# Altium footprint library WE-WPCC.PcbLib: 65 footprints (part 3 of 5)
Each footprint in its own frame and in the unit in brackets; x right, y up, seen from the top. Pads: shape width x height; smd on the part's side, far side on the other; paste and mask are expansions set on the pad; w line width, h text height; cw(c..) or ccw(c..) is an arc to the next point about the centre after c.
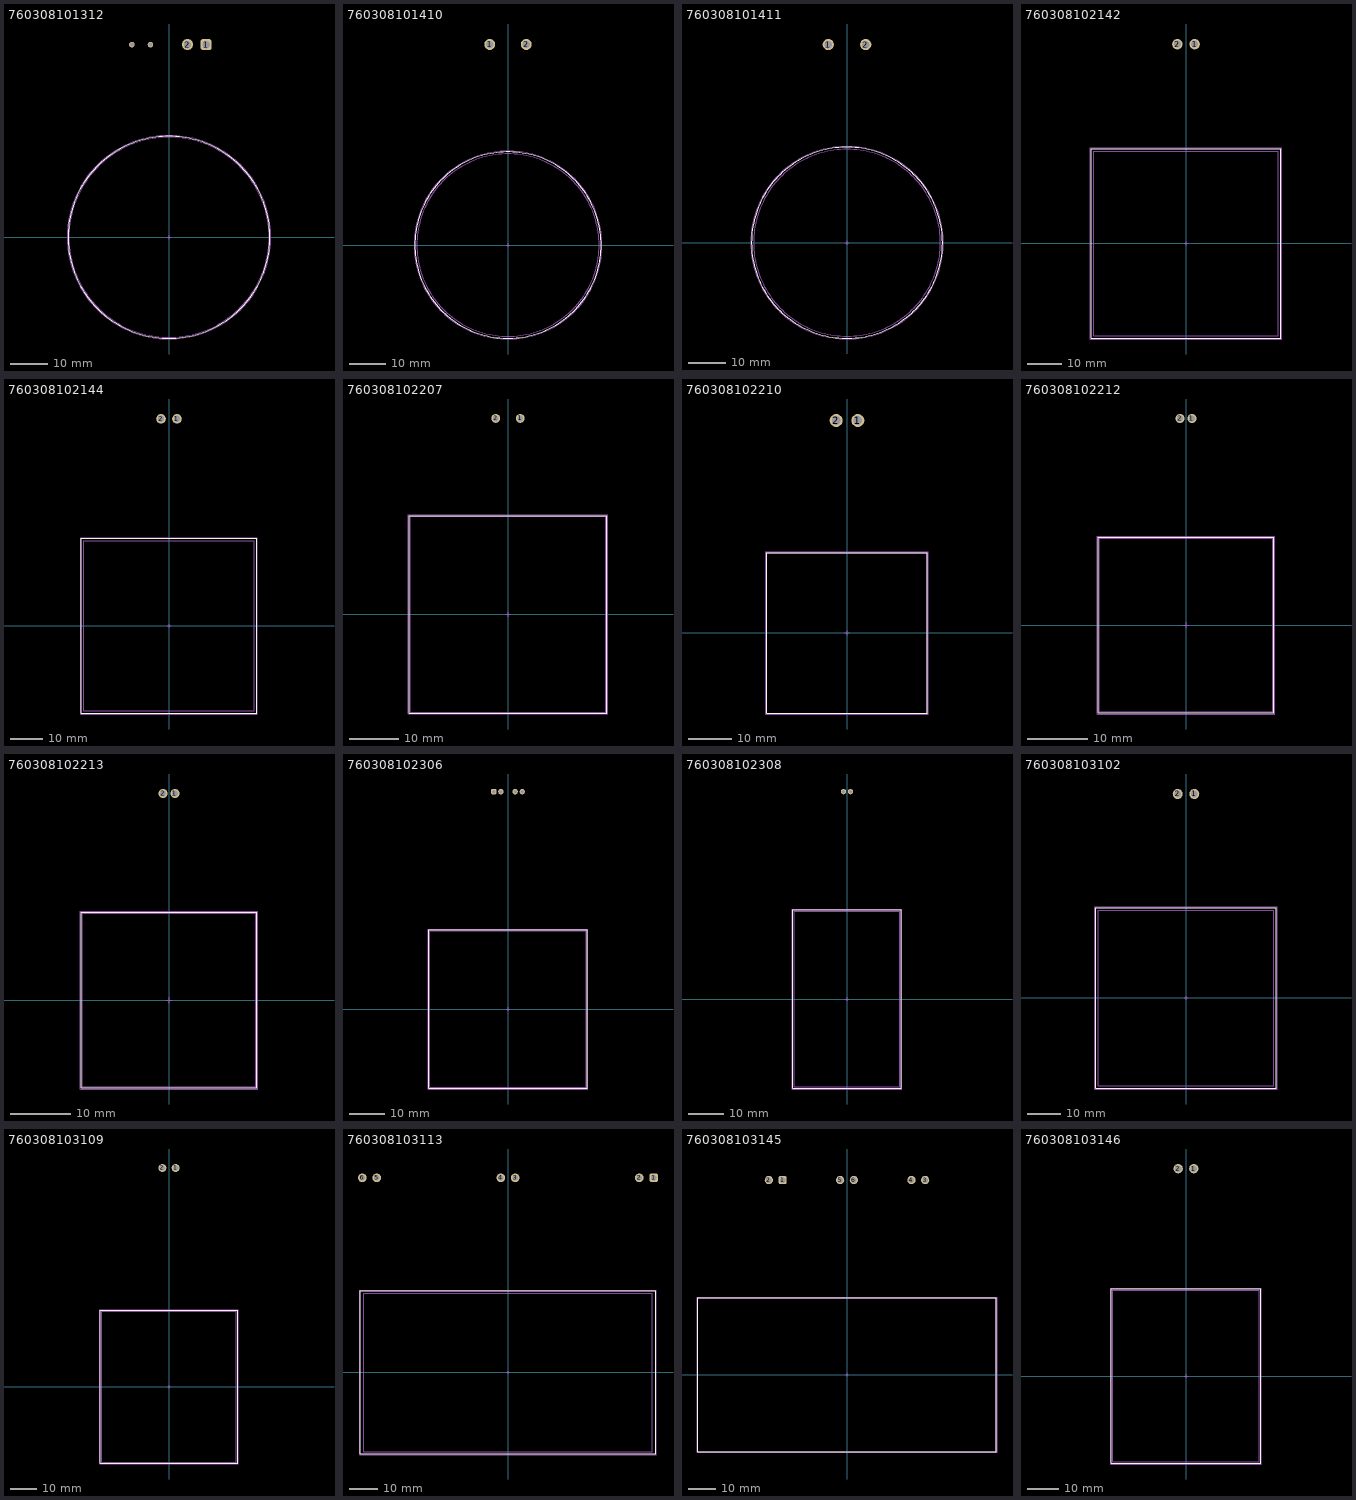
[diagram p2: the footprints below, top view; thin cyan lines are the x and y axes]

## 760308101312 [mm] "Wireless Power Transfer Transmitter Coil, Dia 54mm"
height 4
pads (4):
  rrect50% 3x3 hole 2: 1(10,52)
  round 3 hole 2: 2(5,52)
  round 1.5 hole 1: 3(-5,52) 4(-10,52)
Top Overlay:
  circle w0.2: c0,0 r27.25
Top Component Outline:
  circle w0.1: c0,0 r27
Top 3D Body:
  circle w0.1: c0,0 r27
Top Courtyard:
  circle w0.05: c0,0 r27.45
Top Component Center:
  lines w0.05: -0.5,0 0.5,0 ; 0,-0.5 0,0.5
Top Designator (Mech19):
  text ".Designator" at -7.498,-0.5 h1.5
3D body "760308101312.stp": height 4.05, standoff 0, extent -27.084,-26.997 27,57

## 760308101410 [mm] "Wireless Power Transfer Transmitter Coil, Dia 50mm"
height 3.1
pads (2):
  round 3 hole 2: 1(-5,55) 2(5,55)
Top Overlay:
  circle w0.2: c0,0 r25.55
Top Component Outline:
  circle w0.1: c0,0 r25
Top 3D Body:
  circle w0.1: c0,0 r25
Top Courtyard:
  circle w0.05: c0,0 r25.75
Top Component Center:
  lines w0.05: -0.5,0 0.5,0 ; 0,-0.5 0,0.5
Top Designator (Mech19):
  text ".Designator" at -7.498,-0.5 h1.5
3D body "760308101410.stp": height 3.07, standoff 0.1, extent -24.995,-25 24.995,63.334

## 760308101411 [mm] "Wireless Power Transfer Transmitter Coil, Dia 50mm"
height 2.8
pads (2):
  round 3 hole 2: 1(-5,53) 2(5,53)
Top Overlay:
  circle w0.2: c0,0 r25.55
Top Component Outline:
  circle w0.1: c0,0 r25
Top 3D Body:
  circle w0.1: c0,0 r25
Top Courtyard:
  circle w0.05: c0,0 r25.75
Top Component Center:
  lines w0.05: -0.5,0 0.5,0 ; 0,-0.5 0,0.5
Top Designator (Mech19):
  text ".Designator" at -7.498,-0.5 h1.5
3D body "760308101411.stp": height 2.79, standoff 0.1, extent -24.995,-25 24.995,61.324

## 760308102142 [mm] "Wireless Power Transfer Transmitter Coil, body 55x55mm"
height 6.5
pads (2):
  round 3 hole 2: 1(2.5,57.75) 2(-2.5,57.75)
Top Overlay:
  lines w0.2: -27.501,-27.5 27.499,-27.5 ; -27.5,-27.5 -27.5,27.5 ; -27.5,27.499 27.5,27.499 ; 27.499,-27.502 27.499,27.498
Assembly Notes:
  text "Pitch 5mm min." at -7,54 h1.22
Top Component Outline:
  lines w0.1: -26.75,-26.75 -26.75,26.75 26.75,26.75 26.75,-26.75 -26.75,-26.75
Top 3D Body:
  lines w0.1: -26.75,-26.75 26.75,-26.75 26.75,26.75 -26.75,26.75 -26.75,-26.75
Top Courtyard:
  lines w0.05: -27.7,-27.7 27.7,-27.7 27.7,27.7 -27.7,27.7 -27.7,-27.7
Top Component Center:
  lines w0.05: -0.5,0 0.5,0 ; 0,-0.5 0,0.5
Top Designator (Mech19):
  text ".Designator" at -7.498,-0.5 h1.5
3D body "760308102142.stp": height 5.47, standoff 0.05, extent -26.75,-26.751 26.75,67.749

## 760308102144 [mm] "Wireless Power Transfer Transmitter Coil, body 55x55mm"
height 7
pads (2):
  round 3 hole 2: 1(2.5,64.75) 2(-2.5,64.75)
Top Overlay:
  lines w0.2: -27.4,-27.4 27.4,-27.4 27.4,27.4 -27.4,27.4 -27.4,-27.4
Assembly Notes:
  text "Pitch 5mm min." at -6,61 h1.22
Top Component Outline:
  lines w0.1: -26.65,26.649 26.65,26.649 ; -26.649,-26.65 -26.649,26.65 ; -26.65,-26.65 26.65,-26.65 26.649,26.65
Top 3D Body:
  lines w0.1: -26.65,26.649 26.65,26.649 ; -26.649,-26.65 -26.649,26.65 ; -26.65,-26.65 26.65,-26.65 26.649,26.65
Top Courtyard:
  lines w0.05: -27.6,-27.6 27.6,-27.6 27.6,27.6 -27.6,27.6 -27.6,-27.6
Top Component Center:
  lines w0.05: -0.5,0 0.5,0 ; 0,-0.5 0,0.5
Top Designator (Mech19):
  text ".Designator" at -7.498,-0.5 h1.5
3D body "760308102144.stp": height 6.26, standoff 0.05, extent -26.65,-26.651 26.65,74.649

## 760308102207 [mm] "Wireless Power Transfer Receiver Coil, body 40.3x40.3mm"
height 1.5
pads (2):
  round 1.8 hole 1.2: 1(2.5,40) 2(-2.5,40)
Top Overlay:
  lines w0.2: -20.15,-20.15 -20.15,20.15 20.15,20.15 20.15,-20.15 -20.15,-20.15
Top Component Outline:
  lines w0.1: -20,-20 -20,20 20,20 20,-20 -20,-20
Top 3D Body:
  lines w0.1: -20,-20 20,-20 20,20 -20,20 -20,-20
Top Courtyard:
  lines w0.05: -20.35,-20.35 20.35,-20.35 20.35,20.35 -20.35,20.35 -20.35,-20.35
Top Component Center:
  lines w0.05: -0.5,0 0.5,0 ; 0,-0.5 0,0.5
Top Designator (Mech19):
  text ".Designator" at -7.498,-0.5 h1.5
3D body "760308102207.stp": height 3.05, standoff 0.07, extent -20,-20 20,45

## 760308102210 [mm] "Wireless Power Transfer Receiver Coil, body 37x37mm"
height 1.8
pads (2):
  round 3 hole 2: 1(2.5,49) 2(-2.5,49)
Top Overlay:
  lines w0.2: -18.5,-18.5 18.5,-18.5 18.5,18.5 -18.5,18.5 -18.5,-18.5
Assembly Notes:
  text "Pitch 5mm min." at -7,46 h1.22
Top Component Outline:
  lines w0.1: -18.5,-18.5 18.5,-18.5 18.5,18.5 -18.5,18.5 -18.5,-18.5
Top 3D Body:
  lines w0.1: -18.5,-18.5 -18.5,18.5 18.5,18.5 18.5,-18.5 -18.5,-18.5
Top Courtyard:
  lines w0.05: -18.7,-18.7 18.7,-18.7 18.7,18.7 -18.7,18.7 -18.7,-18.7
Top Component Center:
  lines w0.05: -0.5,0 0.5,0 ; 0,-0.5 0,0.5
Top Designator (Mech19):
  text ".Designator" at -7.498,-0.5 h1.5
3D body "760308102210.stp": height 1.8, standoff 0.05, extent -18.5,-18.5 18.5,63.5

## 760308102212 [mm] "Wireless Power Transfer Receiver Coil, body 29.3x29.3mm"
height 0.94
pads (2):
  round 1.5 hole 1: 1(1,34.5) 2(-1,34.5)
Top Overlay:
  lines w0.2: -14.65,-14.65 14.65,-14.65 14.65,14.65 -14.65,14.65 -14.65,-14.65
Assembly Notes:
  text "Pitch 2mm min." at -6,32 h1.22
Top Component Outline:
  lines w0.1: -14.5,-14.5 14.5,-14.5 14.5,14.5 -14.5,14.5 -14.5,-14.5
Top 3D Body:
  lines w0.1: -14.5,-14.5 -14.5,14.5 14.5,14.5 14.5,-14.5 -14.5,-14.5
Top Courtyard:
  lines w0.05: -14.85,-14.85 -14.85,14.85 14.85,14.85 14.85,-14.85 -14.85,-14.85
Top Component Center:
  lines w0.05: -0.5,0 0.5,0 ; 0,-0.5 0,0.5
Top Designator (Mech19):
  text ".Designator" at -7.498,-0.5 h1.5
3D body "760308102212.stp": height 0.98, standoff 0.03, extent -14.5,-14.5 14.5,39.5

## 760308102213 [mm] "Wireless Power Transfer Receiver Coil, body 29.3x29.3mm"
height 0.92
pads (2):
  round 1.5 hole 1: 1(1,34.5) 2(-1,34.5)
Top Overlay:
  lines w0.2: -14.65,-14.65 -14.65,14.65 14.65,14.65 14.65,-14.65 -14.65,-14.65
Assembly Notes:
  text "Pitch 2mm min." at -7,32 h1.22
Top Component Outline:
  lines w0.1: -14.5,-14.5 -14.5,14.5 14.5,14.5 14.5,-14.5 -14.5,-14.5
Top 3D Body:
  lines w0.1: -14.5,-14.5 14.5,-14.5 14.5,14.5 -14.5,14.5 -14.5,-14.5
Top Courtyard:
  lines w0.05: -14.85,-14.85 14.85,-14.85 14.85,14.85 -14.85,14.85 -14.85,-14.85
Top Component Center:
  lines w0.05: -0.5,0 0.5,0 ; 0,-0.5 0,0.5
Top Designator (Mech19):
  text ".Designator" at -7.498,-0.5 h1.5
3D body "760308102213.stp": height 0.73, standoff 0.04, extent -14.5,-14.5 14.5,39.5

## 760308102306 [mm] "Wireless Power Transfer Receiver Coil, body 44.5x44.5mm"
height 1
pads (4):
  rrect50% 1.5x1.5 hole 1: 1(-4,61)
  round 1.5 hole 1: 2(-2,61) 3(2,61) 4(4,61)
Top Overlay:
  lines w0.2: -22.25,-22.25 -22.25,22.25 22.25,22.25 22.25,-22.25 -22.25,-22.25
Assembly Notes:
  text "Pitch 2mm min." at -6,58 h1.22
Top Component Outline:
  lines w0.1: -22,-22 -22,22 22,22 22,-22 -22,-22
Top 3D Body:
  lines w0.1: -22,-22 22,-22 22,22 -22,22 -22,-22
Top Courtyard:
  lines w0.05: -22.45,-22.45 -22.45,22.45 22.45,22.45 22.45,-22.45 -22.45,-22.45
Top Component Center:
  lines w0.05: -0.5,0 0.5,0 ; 0,-0.5 0,0.5
Top Designator (Mech19):
  text ".Designator" at -7.498,-0.5 h1.5
3D body "760308102306.stp": height 0.83, standoff 0.05, extent -22,-22 22,66

## 760308102308 [mm] "Wireless Power Transfer Transmitter Coil, body 50.8x30.8mm"
height 2.4
pads (2):
  round 1.5 hole 1: 1(1,59) 2(-1,59)
Top Overlay:
  lines w0.2: -15.4,-25.4 15.4,-25.4 15.4,25.4 -15.4,25.4 -15.4,-25.4
Assembly Notes:
  text "Pitch 2mm min." at -7,56 h1.22
Top Component Outline:
  lines w0.1: -15,-25 15,-25 15,25 -15,25 -15,-25
Top 3D Body:
  lines w0.1: -15,-25 -15,25 15,25 15,-25 -15,-25
Top Courtyard:
  lines w0.05: -15.6,-25.6 -15.6,25.6 15.6,25.6 15.6,-25.6 -15.6,-25.6
Top Component Center:
  lines w0.05: -0.5,0 0.5,0 ; 0,-0.5 0,0.5
Top Designator (Mech19):
  text ".Designator" at -7.498,-0.5 h1.5
3D body "760308102308.stp": height 2.88, standoff 0.05, extent -15,-25 15,65

## 760308103102 [mm] "Wireless Power Transfer Transmitter Coil, body 54.5x54.5mm"
height 2.4
pads (2):
  round 3 hole 2: 1(2.5,61.5) 2(-2.5,61.5)
Top Overlay:
  lines w0.2: -27.25,-27.25 -27.25,27.25 27.25,27.25 27.25,-27.25 -27.25,-27.25
Assembly Notes:
  text "Pitch 5mm min." at -6,58 h1.22
Top Component Outline:
  lines w0.1: -26.5,-26.5 -26.5,26.5 26.5,26.5 26.5,-26.5 -26.5,-26.5
Top 3D Body:
  lines w0.1: -26.5,-26.5 26.5,-26.5 26.5,26.5 -26.5,26.5 -26.5,-26.5
Top Courtyard:
  lines w0.05: -27.45,-27.45 27.45,-27.45 27.45,27.45 -27.45,27.45 -27.45,-27.45
Top Component Center:
  lines w0.05: -0.5,0 0.5,0 ; 0,-0.5 0,0.5
Top Designator (Mech19):
  text ".Designator" at -7.498,-0.5 h1.5
3D body "760308103102.stp": height 3.59, standoff 0.05, extent -26.5,-26.5 26.5,66.51

## 760308103109 [mm] "Wireless Power Transfer Transmitter Coil, body 57x51mm"
height 4.2
pads (2):
  round 3 hole 2: 1(2.5,82.7) 2(-2.5,82.7)
Top Overlay:
  lines w0.2: -26,-29 26,-29 26,29 -26,29 -26,-29
Assembly Notes:
  text "Pitch 5mm min." at -7,79 h1.22
Top Component Outline:
  lines w0.1: -25.5,-28.5 25.5,-28.5 25.5,28.5 -25.5,28.5 -25.5,-28.5
Top 3D Body:
  lines w0.1: -25.5,-28.5 -25.5,28.5 25.5,28.5 25.5,-28.5 -25.5,-28.5
Top Courtyard:
  lines w0.05: -26.2,-29.2 -26.2,29.2 26.2,29.2 26.2,-29.2 -26.2,-29.2
Top Component Center:
  lines w0.05: -0.5,0 0.5,0 ; 0,-0.5 0,0.5
Top Designator (Mech19):
  text ".Designator" at -7.498,-0.5 h1.5
3D body "760308103109.stp": height 3.5, standoff 0.05, extent -25.5,-28.5 25.5,88.7

## 760308103113 [mm] "Wireless Power Array, body 100x55mm"
height 4.5
pads (6):
  rrect50% 3x3 hole 2: 1(50.5,67.5)
  round 3 hole 2: 2(45.5,67.5) 3(2.5,67.5) 4(-2.5,67.5) 5(-45.5,67.5) 6(-50.5,67.5)
Top Overlay:
  lines w0.2: -51.25,-28.25 -51.25,28.25 51.25,28.25 51.25,-28.25 -51.25,-28.25
Assembly Notes:
  text "Pitch 5mm min." at -7,64 h1.22
Top Component Outline:
  lines w0.1: -50,-27.5 50,-27.5 50,27.5 -50,27.5 -50,-27.5
Top 3D Body:
  lines w0.1: -50,-27.5 -50,27.5 50,27.5 50,-27.5 -50,-27.5
Top Courtyard:
  lines w0.05: -51.45,-28.45 -51.45,28.45 51.45,28.45 51.45,-28.45 -51.45,-28.45
Top Component Center:
  lines w0.05: -0.5,0 0.5,0 ; 0,-0.5 0,0.5
Top Designator (Mech19):
  text ".Designator" at -7.498,-0.5 h1.5
3D body "760308103113.stp": height 3.52, standoff 0.05, extent -50,-27.5 50,77.5

## 760308103145 [mm] "Wireless Power Array, body 109x56mm"
height 5.2
pads (6):
  rrect50% 3x3 hole 2: 1(-23.5,71)
  round 3 hole 2: 2(-28.5,71) 3(28.5,71) 4(23.5,71) 5(-2.5,71) 6(2.5,71)
Top Overlay:
  lines w0.2: -54.5,-28 -54.5,28 54.5,28 54.5,-28 -54.5,-28
Top Component Outline:
  lines w0.1: -54.5,-28 -54.5,28 54.5,28 54.5,-28 -54.5,-28
Top 3D Body:
  lines w0.1: -54.5,-28 54.5,-28 54.5,28 -54.5,28 -54.5,-28
Top Courtyard:
  lines w0.05: -54.7,-28.2 54.7,-28.2 54.7,28.2 -54.7,28.2 -54.7,-28.2
Top Component Center:
  lines w0.05: -0.5,0 0.5,0 ; 0,-0.5 0,0.5
Top Designator (Mech19):
  text ".Designator" at -7.498,-0.5 h1.5
3D body "760308103145.stp": height 3.23, standoff 0.05, extent -54.5,-28 54.5,79.37

## 760308103146 [mm] "Wireless Power Transfer Transmitter Coil, body 48x56mm"
height 4.5
pads (2):
  round 3 hole 2: 1(2.5,66.5) 2(-2.5,66.5)
Top Overlay:
  lines w0.2: -24,-28 24,-28 24,28 -24,28 -24,-28
Assembly Notes:
  text "Pitch 5mm min." at -6,63 h1.22
Top Component Outline:
  lines w0.1: -23.5,-27.5 23.5,-27.5 23.5,27.5 -23.5,27.5 -23.5,-27.5
Top 3D Body:
  lines w0.1: -23.5,-27.5 -23.5,27.5 23.5,27.5 23.5,-27.5 -23.5,-27.5
Top Courtyard:
  lines w0.05: -24.2,-28.2 -24.2,28.2 24.2,28.2 24.2,-28.2 -24.2,-28.2
Top Component Center:
  lines w0.05: -0.5,0 0.5,0 ; 0,-0.5 0,0.5
Top Designator (Mech19):
  text ".Designator" at -7.498,-0.5 h1.5
3D body "760308103146 (rev1).stp": height 4.17, standoff 0.05, extent -23.5,-27.5 23.5,77.555